# Altium footprint library MezzanineDCDC.PcbLib: 26 footprints (part 2 of 2)
Each footprint in its own frame and in the unit in brackets; x right, y up, seen from the top. Pads: shape width x height; smd on the part's side, far side on the other; paste and mask are expansions set on the pad; w line width, h text height; cw(c..) or ccw(c..) is an arc to the next point about the centre after c.
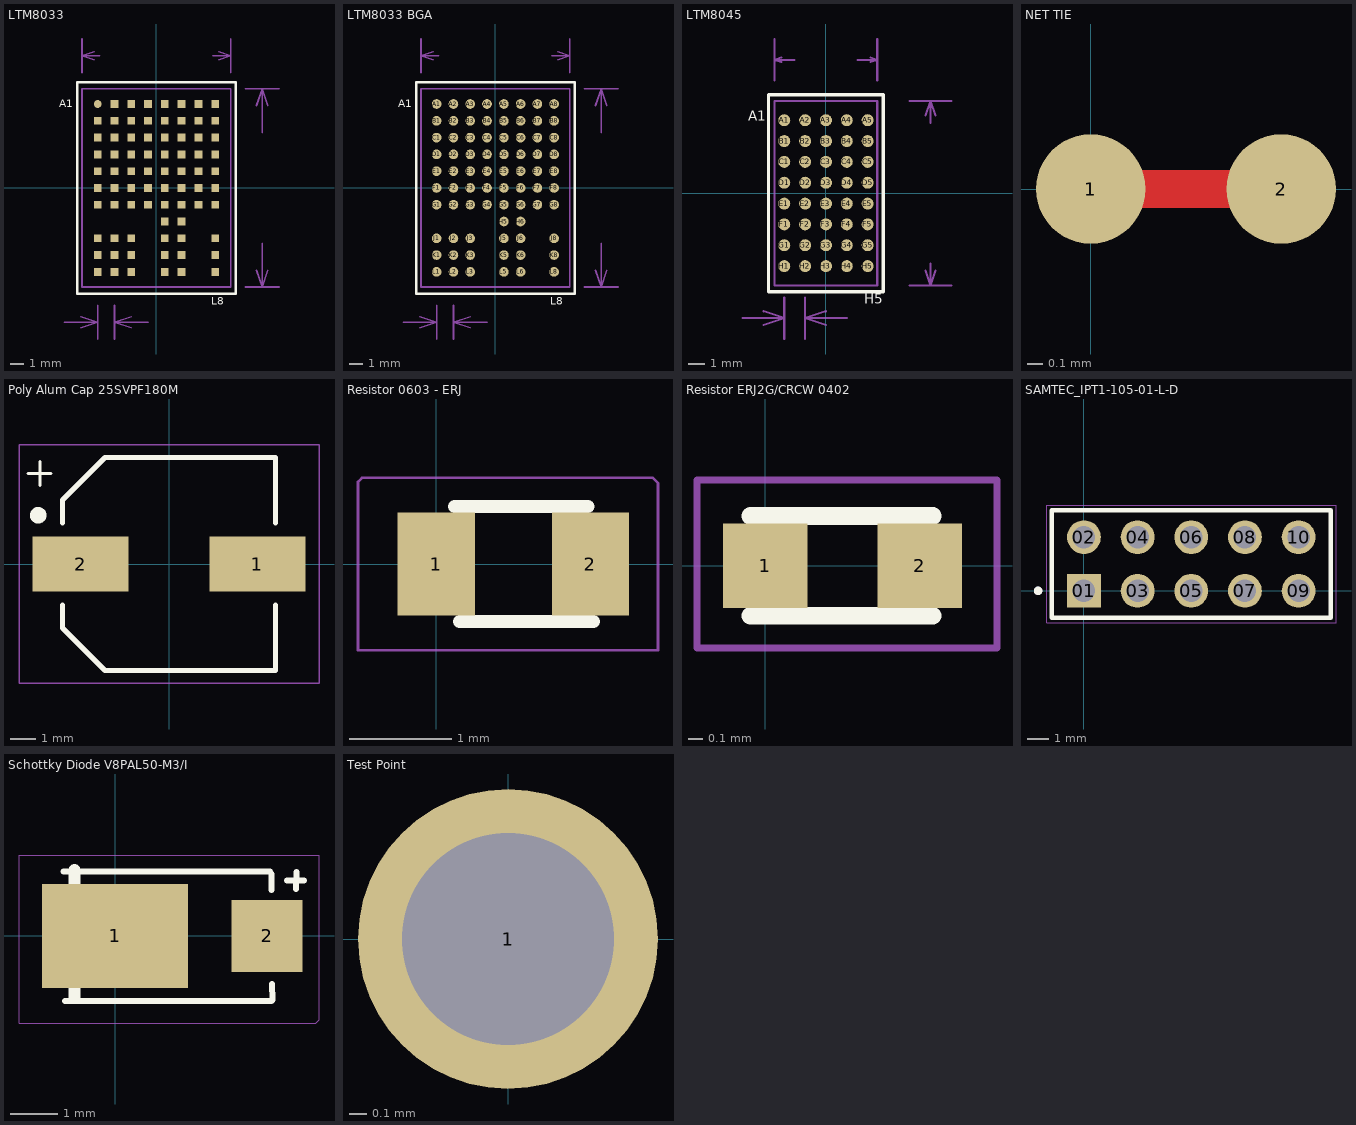
[diagram p1: the footprints below, top view; thin cyan lines are the x and y axes]

## LTM8033 [mm]
pads (76):
  round 0.59 smd: A1(-4.445,6.35)
  rect 0.59x0.59 smd: A2(-3.175,6.35) A3(-1.905,6.35) A4(-0.635,6.35) A5(0.635,6.35) A6(1.905,6.35) A7(3.175,6.35) A8(4.445,6.35) B1(-4.445,5.08) B2(-3.175,5.08) B3(-1.905,5.08) B4(-0.635,5.08) B5(0.635,5.08) B6(1.905,5.08) B7(3.175,5.08) B8(4.445,5.08) C1(-4.445,3.81) C2(-3.175,3.81) C3(-1.905,3.81) C4(-0.635,3.81) C5(0.635,3.81) C6(1.905,3.81) C7(3.175,3.81) C8(4.445,3.81) D1(-4.445,2.54) D2(-3.175,2.54) D3(-1.905,2.54) D4(-0.635,2.54) D5(0.635,2.54) D6(1.905,2.54) D7(3.175,2.54) D8(4.445,2.54) E1(-4.445,1.27) E2(-3.175,1.27) E3(-1.905,1.27) E4(-0.635,1.27) E5(0.635,1.27) E6(1.905,1.27) E7(3.175,1.27) E8(4.445,1.27) F1(-4.445,0) F2(-3.175,0) F3(-1.905,0) F4(-0.635,0) F5(0.635,0) F6(1.905,0) F7(3.175,0) F8(4.445,0) G1(-4.445,-1.27) G2(-3.175,-1.27) G3(-1.905,-1.27) G4(-0.635,-1.27) G5(0.635,-1.27) G6(1.905,-1.27) G7(3.175,-1.27) G8(4.445,-1.27) H5(0.635,-2.54) H6(1.905,-2.54) J1(-4.445,-3.81) J2(-3.175,-3.81) J3(-1.905,-3.81) J5(0.635,-3.81) J6(1.905,-3.81) J8(4.445,-3.81) K1(-4.445,-5.08) K2(-3.175,-5.08) K3(-1.905,-5.08) K5(0.635,-5.08) K6(1.905,-5.08) K8(4.445,-5.08) L1(-4.445,-6.35) L2(-3.175,-6.35) L3(-1.905,-6.35) L5(0.635,-6.35) L6(1.905,-6.35) L8(4.445,-6.35)
Top Overlay:
  lines w0.203: -6,-8 6,-8 6,8 -6,8 -6,-8
  text "L8" at 4.14,-9.057 h1.02
  text "A1" at -7.366,5.893 h1.02
Mechanical 15:
  lines w0.127: -6.985,-10.16 -4.445,-10.16 ; -5.715,-10.583 -4.445,-10.16 ; -5.715,-9.737 -4.445,-10.16 ; -5.625,8.73 -5.625,11.27 ; -4.725,9.7 -5.625,10 ; -4.725,10.3 -5.625,10 ; -4.445,-11.43 -4.445,-8.89 ; -4.28,10 -5.625,10 ; -3.175,-11.43 -3.175,-8.89 ; -1.905,-10.583 -3.175,-10.16 ; -1.905,-9.737 -3.175,-10.16 ; -0.635,-10.16 -3.175,-10.16 ; 4.28,10 5.625,10 ; 4.725,9.7 5.625,10 ; 4.725,10.3 5.625,10 ; 5.625,8.73 5.625,11.27 ; 6.73,-7.5 9.27,-7.5 ; 6.73,7.5 9.27,7.5 ; 7.577,-6.23 8,-7.5 ; 7.577,6.23 8,7.5 ; 8,-4.19 8,-7.5 ; 8,4.19 8,7.5 ; 8.423,-6.23 8,-7.5 ; 8.423,6.23 8,7.5 ; -5.625,-7.5 5.625,-7.5 5.625,7.5 -5.625,7.5 -5.625,-7.5
  text "1.27 (mm)" at -8.91,-13.207 h1.27
  text "15 (mm)" at 8.762,-3.936 h1.27
  text "11.25 (mm)" at -4.026,9.423 h0.9
3D body: height 4.35, standoff 0, extent -5.588,-7.493 5.588,7.493

## LTM8033 BGA [mm]
pads (76):
  round 0.73 smd: A1(-4.445,6.35) A2(-3.175,6.35) A3(-1.905,6.35) A4(-0.635,6.35) A5(0.635,6.35) A6(1.905,6.35) A7(3.175,6.35) A8(4.445,6.35) B1(-4.445,5.08) B2(-3.175,5.08) B3(-1.905,5.08) B4(-0.635,5.08) B5(0.635,5.08) B6(1.905,5.08) B7(3.175,5.08) B8(4.445,5.08) C1(-4.445,3.81) C2(-3.175,3.81) C3(-1.905,3.81) C4(-0.635,3.81) C5(0.635,3.81) C6(1.905,3.81) C7(3.175,3.81) C8(4.445,3.81) D1(-4.445,2.54) D2(-3.175,2.54) D3(-1.905,2.54) D4(-0.635,2.54) D5(0.635,2.54) D6(1.905,2.54) D7(3.175,2.54) D8(4.445,2.54) E1(-4.445,1.27) E2(-3.175,1.27) E3(-1.905,1.27) E4(-0.635,1.27) E5(0.635,1.27) E6(1.905,1.27) E7(3.175,1.27) E8(4.445,1.27) F1(-4.445,0) F2(-3.175,0) F3(-1.905,0) F4(-0.635,0) F5(0.635,0) F6(1.905,0) F7(3.175,0) F8(4.445,0) G1(-4.445,-1.27) G2(-3.175,-1.27) G3(-1.905,-1.27) G4(-0.635,-1.27) G5(0.635,-1.27) G6(1.905,-1.27) G7(3.175,-1.27) G8(4.445,-1.27) H5(0.635,-2.54) H6(1.905,-2.54) J1(-4.445,-3.81) J2(-3.175,-3.81) J3(-1.905,-3.81) J5(0.635,-3.81) J6(1.905,-3.81) J8(4.445,-3.81) K1(-4.445,-5.08) K2(-3.175,-5.08) K3(-1.905,-5.08) K5(0.635,-5.08) K6(1.905,-5.08) K8(4.445,-5.08) L1(-4.445,-6.35) L2(-3.175,-6.35) L3(-1.905,-6.35) L5(0.635,-6.35) L6(1.905,-6.35) L8(4.445,-6.35)
Top Overlay:
  lines w0.203: -6,-8 -6,8 6,8 6,-8 -6,-8
  text "A1" at -7.366,5.893 h1.02
  text "L8" at 4.14,-9.057 h1.02
Mechanical 15:
  lines w0.127: -6.985,-10.16 -4.445,-10.16 ; -5.715,-10.583 -4.445,-10.16 ; -5.715,-9.737 -4.445,-10.16 ; -5.625,8.73 -5.625,11.27 ; -4.725,9.7 -5.625,10 ; -4.725,10.3 -5.625,10 ; -4.445,-11.43 -4.445,-8.89 ; -4.28,10 -5.625,10 ; -3.175,-11.43 -3.175,-8.89 ; -1.905,-10.583 -3.175,-10.16 ; -1.905,-9.737 -3.175,-10.16 ; -0.635,-10.16 -3.175,-10.16 ; 4.28,10 5.625,10 ; 4.725,9.7 5.625,10 ; 4.725,10.3 5.625,10 ; 5.625,8.73 5.625,11.27 ; 6.73,-7.5 9.27,-7.5 ; 6.73,7.5 9.27,7.5 ; 7.577,-6.23 8,-7.5 ; 7.577,6.23 8,7.5 ; 8,-4.19 8,-7.5 ; 8,4.19 8,7.5 ; 8.423,-6.23 8,-7.5 ; 8.423,6.23 8,7.5 ; -5.625,-7.5 -5.625,7.5 5.625,7.5 5.625,-7.5 -5.625,-7.5
  text "11.25 (mm)" at -4.026,9.423 h0.9
  text "15 (mm)" at 8.762,-3.936 h1.27
  text "1.27 (mm)" at -8.91,-13.207 h1.27
3D body: height 4.92, standoff 0, extent -5.588,-7.493 5.588,7.493

## LTM8045 [mm] "DCDC Converter"
pads (40):
  round 0.73 smd: A1(-2.54,4.445) A2(-1.27,4.445) A3(0,4.445) A4(1.27,4.445) A5(2.54,4.445) B1(-2.54,3.175) B2(-1.27,3.175) B3(0,3.175) B4(1.27,3.175) B5(2.54,3.175) C1(-2.54,1.905) C2(-1.27,1.905) C3(0,1.905) C4(1.27,1.905) C5(2.54,1.905) D1(-2.54,0.635) D2(-1.27,0.635) D3(0,0.635) D4(1.27,0.635) D5(2.54,0.635) E1(-2.54,-0.635) E2(-1.27,-0.635) E3(0,-0.635) E4(1.27,-0.635) E5(2.54,-0.635) F1(-2.54,-1.905) F2(-1.27,-1.905) F3(0,-1.905) F4(1.27,-1.905) F5(2.54,-1.905) G1(-2.54,-3.175) G2(-1.27,-3.175) G3(0,-3.175) G4(1.27,-3.175) G5(2.54,-3.175) H1(-2.54,-4.445) H2(-1.27,-4.445) H3(0,-4.445) H4(1.27,-4.445) H5(2.54,-4.445)
Top Overlay:
  lines w0.203: -3.5,-6 3.5,-6 3.5,6 -3.5,6 -3.5,-6
  text "A1" at -4.75,4.191 h1.02
  text "H5" at 2.337,-6.949 h1.02
Mechanical 15:
  lines w0.127: -5.08,-7.62 -2.54,-7.62 ; -3.81,-8.043 -2.54,-7.62 ; -3.81,-7.197 -2.54,-7.62 ; -3.125,6.855 -3.125,9.395 ; -2.725,7.992 -3.125,8.125 ; -2.725,8.258 -3.125,8.125 ; -2.54,-8.89 -2.54,-6.35 ; -1.933,8.125 -3.125,8.125 ; -1.27,-8.89 -1.27,-6.35 ; 0,-8.043 -1.27,-7.62 ; 0,-7.197 -1.27,-7.62 ; 1.27,-7.62 -1.27,-7.62 ; 1.933,8.125 3.125,8.125 ; 2.725,7.992 3.125,8.125 ; 2.725,8.258 3.125,8.125 ; 3.125,6.855 3.125,9.395 ; 5.105,-5.625 7.645,-5.625 ; 5.105,5.625 7.645,5.625 ; 6.075,-4.725 6.375,-5.625 ; 6.075,4.725 6.375,5.625 ; 6.375,-4.28 6.375,-5.625 ; 6.375,4.28 6.375,5.625 ; 6.675,-4.725 6.375,-5.625 ; 6.675,4.725 6.375,5.625 ; -3.125,-5.625 -3.125,5.625 3.125,5.625 3.125,-5.625 -3.125,-5.625
  text "1.27 (mm)" at -7.005,-10.667 h1.27
  text "11.25 (mm)" at 6.952,-4.026 h0.9
  text "6.25 (mm)" at -1.679,7.845 h0.4
3D body: height 4.92, standoff 0, extent -3.353,-5.791 3.385,5.854

## NET TIE [mm]
pads (2):
  round 0.73 smd: 1(0,0) 2(1.27,0)
Top Layer:
  lines w0.254: 0,0 1.27,0

## Poly Alum Cap 25SVPF180M [mm]
pads (2):
  rect 3.75x2.15 smd: 1(3.45,0) 2(-3.45,0)
Top Overlay:
  circle w0.2: c-5.1,1.9 r0.224
  region: -4.9,1.703 -5.31,1.703 -5.31,2.1 -4.9,2.1
  lines w0.127: -5.486,3.531 -4.597,3.531 ; -5.029,3.073 -5.029,3.988
  lines w0.2: -4.15,-1.6 -4.15,-2.5 -2.5,-4.15 4.15,-4.15 4.15,-1.6 ; -4.15,1.6 -4.15,2.5 -2.5,4.15 4.15,4.15 4.15,1.6
Mechanical 15:
  lines w0.05: -5.85,-4.65 5.85,-4.65 5.85,4.65 -5.85,4.65 -5.85,-4.65
3D body: height 12, standoff 0, extent -4,-3.997 4,3.997

## Resistor 0603 - ERJ [mm]
pads (2):
  rect 0.75x1 smd: 1(0,0) 2(1.5,0)
Top Overlay:
  lines w0.127: 0.178,0.559 1.478,0.559 ; 0.229,-0.559 1.529,-0.559
Mechanical 16:
  lines w0.025: -0.762,-0.838 2.159,-0.838 2.159,0.787 2.108,0.838 -0.483,0.838 -0.724,0.838 -0.762,0.8 -0.762,-0.838
3D body: height 0.55, standoff 0, extent 0.001,-0.4 1.6,0.4

## Resistor ERJ2G/CRCW 0402 [mm]
pads (2):
  rect 0.6x0.6 smd: 1(0,0) 2(1.1,0)
Top Overlay:
  lines w0.127: -0.106,-0.356 1.194,-0.356 ; -0.106,0.356 1.194,0.356
Mechanical 16:
  lines w0.05: -0.486,-0.584 -0.486,0.61 ; -0.483,-0.584 1.651,-0.584 1.651,0.61 -0.483,0.61
3D body: height 0.4, standoff 0, extent 0.001,-0.25 1,0.25

## SAMTEC_IPT1-105-01-L-D [mil]
pads (10):
  rect 63x63 hole 42: 01(0,0)
  round 63 hole 42: 02(0,100) 03(100,0) 04(100,100) 05(200,0) 06(200,100) 07(300,0) 08(300,100) 09(400,0) 10(400,100)
Top Overlay:
  circle w7.87: c-85.43,0 r3.94
  lines w7.87: -59.84,-50 459.84,-50 459.84,150 -59.84,150 -59.84,-50
Mechanical 13:
  circle w7.87: c-85.43,0 r3.94
  lines w3.94: -59.84,-50 459.84,-50 459.84,150 -59.84,150 -59.84,-50
Mechanical 15:
  lines w1.97: -69.69,-59.84 469.69,-59.84 469.69,159.84 -69.69,159.84 -69.69,-59.84
3D body: height 250, standoff 0, extent -56,-46.75 459.03,152.25
3D body: height 85, standoff 0, extent -12.89,-12.97 13,12.98
3D body: height 85, standoff 0, extent 88.11,-13.97 114.01,11.98
3D body: height 85, standoff 0, extent 188.11,-13.97 214.01,11.98
3D body: height 85, standoff 0, extent 288.11,-13.97 314.01,11.98
3D body: height 85, standoff 0, extent 388.11,-13.97 414.01,11.98
3D body: height 85, standoff 0, extent 388.11,86.03 414.01,111.98
3D body: height 85, standoff 0, extent 288.11,86.03 314.01,111.98
3D body: height 85, standoff 0, extent 188.11,86.03 214.01,111.98
3D body: height 85, standoff 0, extent 88.11,86.03 114.01,111.98
3D body: height 85, standoff 0, extent -11.89,86.03 14.01,111.98

## Schottky Diode V8PAL50-M3/I [mm]
pads (2):
  rect 3.1x2.2 smd: 1(0,0)
  rect 1.5x1.52 smd: 2(3.22,0)
Top Overlay:
  lines w0.127: -1.09,1.36 3.28,1.36 ; -1.06,-1.38 3.31,-1.38 ; 3.308,1.313 3.31,0.97 ; 3.327,-1.014 3.33,-1.357 ; 3.64,1.17 3.997,1.168 ; 3.835,0.993 3.837,1.35
  lines w0.254: -0.857,-1.309 -0.857,1.394
Mechanical 16:
  lines w0.025: -2.032,-1.844 -2.032,-0.508 -2.032,1.712 4.318,1.712 4.318,0.835 4.318,-0.849 4.318,-1.778 4.252,-1.844 -2.032,-1.844
3D body: height 1, standoff 0, extent -0.984,-1.38 3.355,1.35

## Test Point [mil]
pads (1):
  round 68 hole 48: 1(0,0)